# Altium schematic symbol library SS360PT.SchLib: 1 symbol
Pins are listed as number, name and electrical type; pins without a type are passive.

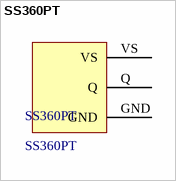
[diagram p0: symbol SS360PT]

## SS360PT
designator SS360PT
footprint SS360PT
pins: GND, Q, VS